# Altium schematic symbol library B12AP.SchLib: 2 symbols
Pins are listed as number, name and electrical type; pins without a type are passive.

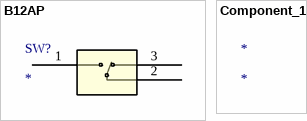
[diagram p0: symbols B12AP to Component_1]

## B12AP
designator SW?
No Description Available; Mfr_Name: NKK Switches; Type: Toggle Switches; RefDes: RefDes
footprint B12AP_NKK
pins: 1, 2, 3

## Component_1
designator *